# Altium schematic symbol library MesComposants.SchLib: 5 symbols
Pins are listed as number, name and electrical type; pins without a type are passive.

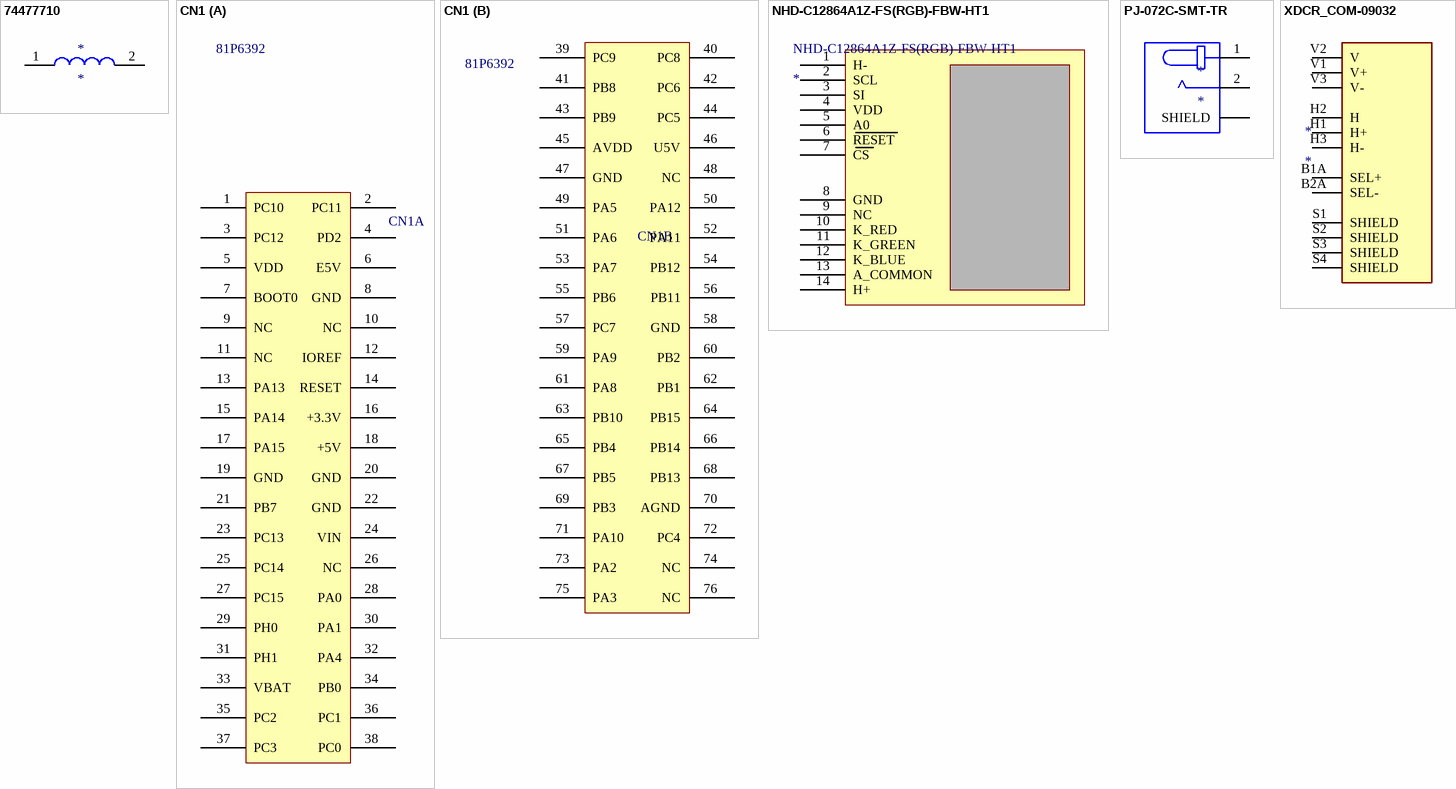
[diagram p0: symbols 74477710 to XDCR_COM-09032]

## 74477710
designator *
pins: 1, 2

## CN1
designator CN1  Supplier Part Number 1: 81P6392
Supplier 1: Newark
footprint Nucleo-conn-SMD - sans 3D (Interface Nucleo morpho connectors)
part A pins: 1 PC10, 2 PC11, 3 PC12, 4 PD2, 5 VDD, 6 E5V, 7 BOOT0, 8 GND, 9 NC, 10 NC, 11 NC, 12 IOREF, 13 PA13, 14 RESET, 15 PA14, 16 +3.3V, 17 PA15, 18 +5V, 19 GND, 20 GND, 21 PB7, 22 GND, 23 PC13, 24 VIN, 25 PC14, 26 NC, 27 PC15, 28 PA0, 29 PH0, 30 PA1, 31 PH1, 32 PA4, 33 VBAT, 34 PB0, 35 PC2, 36 PC1, 37 PC3, 38 PC0
part B pins: 39 PC9, 40 PC8, 41 PB8, 42 PC6, 43 PB9, 44 PC5, 45 AVDD, 46 U5V, 47 GND, 48 NC, 49 PA5, 50 PA12, 51 PA6, 52 PA11, 53 PA7, 54 PB12, 55 PB6, 56 PB11, 57 PC7, 58 GND, 59 PA9, 60 PB2, 61 PA8, 62 PB1, 63 PB10, 64 PB15, 65 PB4, 66 PB14, 67 PB5, 68 PB13, 69 PB3, 70 AGND, 71 PA10, 72 PC4, 73 PA2, 74 NC, 75 PA3, 76 NC

## NHD-C12864A1Z-FS(RGB)-FBW-HT1
designator NHD-C12864A1Z-FS(RGB)-FBW-HT1
footprint NHD-C12864A1Z-FS(RGB)-FBW-HT1
pins: 1 H-, 2 SCL, 3 SI, 4 VDD, 5 A0, 6 RESET, 7 CS, 8 GND, 9 NC, 10 K_RED, 11 K_GREEN, 12 K_BLUE, 13 A_COMMON, 14 H+

## PJ-072C-SMT-TR
designator *
pins: 1, 2, 3 SHIELD, 4 SHIELD

## XDCR_COM-09032
designator *
pins: B1A SEL+, B2A SEL-, H1 H+, H2 H, H3 H-, S1 SHIELD, S2 SHIELD, S3 SHIELD, S4 SHIELD, V1 V+, V2 V, V3 V-